# Altium schematic symbol library CPU_STM.SchLib: 336 symbols (part 1 of 6)
Pins are listed as number, name and electrical type; pins without a type are passive.

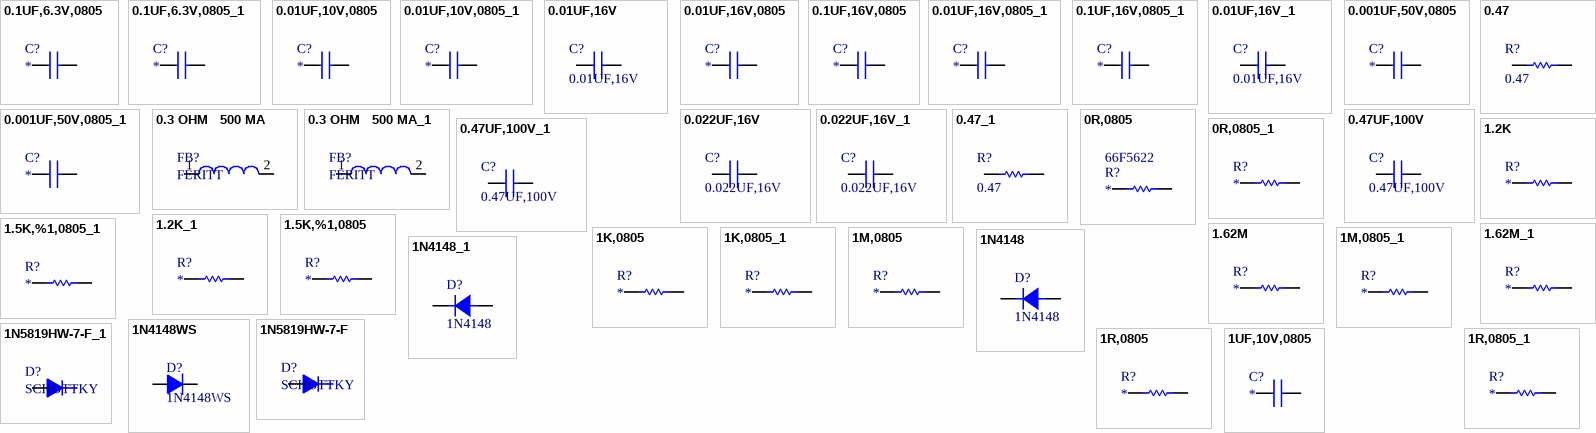
[diagram p0: symbols 0.1UF,6.3V,0805 to 1UF,10V,0805]

## 0.1UF,6.3V,0805
designator C?
CAP CER 0.1UF 6.3V 10% X7R 0805; Manufacturer: Kemet; Manufacturer Part Number: C0805C104K9RACTU; Capacitance: 0.1µF; Supplier 1: Digi-Key; RoHS: RoHS Compliant; Category: Capacitors; Stock 1: 19204; Pricing 1: 1=0.12, 10=0.083, 25=0.062, 50=0.0476, 100=0.0392, 250=0.03304, 1000=0.02228 (USD); Packaging: Digi-Reel®; Tolerance: ±10%; Voltage - Rated: 6.3V; Temperature Coefficient: X7R; Mounting Type: Surface Mount, MLCC; Operating Temperature: -55°C ~ 125°C; Applications: General Purpose; Ratings: -; Package / Case: 0805 (2012 Metric); Size / Dimension: 0.079" L x 0.049" W (2.00mm x 1.25mm); Height - Seated (Max): -; Thickness (Max): 0.035" (0.88mm); Lead Spacing: -; Features: -; Lead Style: -; ComponentLink1URL: http://www.kemet.com/docfinder?Partnumber=C0805C104K9RACTU; ComponentLink1Description: http://www.kemet.com/docfinder?Partnumber=C0805C104K9RACTU; Supplier Part Number 1: 399-9155-6-ND
footprint C0805
pins: 1, 2

## 0.1UF,6.3V,0805_1
designator C?
CAP CER 0.1UF 6.3V 10% X7R 0805; Manufacturer: Kemet; Manufacturer Part Number: C0805C104K9RACTU; Capacitance: 0.1µF; Supplier 1: Digi-Key; RoHS: RoHS Compliant; Category: Capacitors; Stock 1: 19204; Pricing 1: 1=0.12, 10=0.083, 25=0.062, 50=0.0476, 100=0.0392, 250=0.03304, 1000=0.02228 (USD); Packaging: Digi-Reel®; Tolerance: ±10%; Voltage - Rated: 6.3V; Temperature Coefficient: X7R; Mounting Type: Surface Mount, MLCC; Operating Temperature: -55°C ~ 125°C; Applications: General Purpose; Ratings: -; Package / Case: 0805 (2012 Metric); Size / Dimension: 0.079" L x 0.049" W (2.00mm x 1.25mm); Height - Seated (Max): -; Thickness (Max): 0.035" (0.88mm); Lead Spacing: -; Features: -; Lead Style: -; ComponentLink1URL: http://www.kemet.com/docfinder?Partnumber=C0805C104K9RACTU; ComponentLink1Description: http://www.kemet.com/docfinder?Partnumber=C0805C104K9RACTU; Supplier Part Number 1: 399-9155-6-ND
footprint C0805
pins: 1, 2

## 0.01UF,10V,0805
designator C?
MULTICOMP - MCSH21B103K100CT - CAP, MLCC, X7R, 10NF, 10V, 0805; Supplier 1: Farnell; Manufacturer: MULTICOMP; Manufacturer Part Number: MCSH21B103K100CT; RoHS: YES; Stock 1: 9100; Pricing 1: 100=0,02, 500=0,0106, 1000=0,008, 3000=0,0067 (EUR); ComponentLink1URL: http://www.farnell.com/datasheets/1825494.pdf; ComponentLink1Description: http://www.farnell.com/datasheets/1825494.pdf; Supplier Part Number 1: 1856414RL
footprint C0805
pins: 1, 2

## 0.01UF,10V,0805_1
designator C?
MULTICOMP - MCSH21B103K100CT - CAP, MLCC, X7R, 10NF, 10V, 0805; Supplier 1: Farnell; Manufacturer: MULTICOMP; Manufacturer Part Number: MCSH21B103K100CT; RoHS: YES; Stock 1: 9100; Pricing 1: 100=0,02, 500=0,0106, 1000=0,008, 3000=0,0067 (EUR); ComponentLink1URL: http://www.farnell.com/datasheets/1825494.pdf; ComponentLink1Description: http://www.farnell.com/datasheets/1825494.pdf; Supplier Part Number 1: 1856414RL
footprint C0805
pins: 1, 2

## 0.01UF,16V
designator C?
Multilayer Ceramic Capacitors MLCC - SMD/SMT 0603 0.01uF 16volts X7R 10%; Manufacturer: Murata Electronics; Manufacturer Part Number: GRM188R71C103KA01D; Type: General Purpose MLCC; Case Height: 0.8 mm; Case Length: 1.6 mm; Temperature Coefficient / Code: +/- 15 %; Supplier 1: Mouser; RoHS: RoHS Compliant; Category: Multilayer Ceramic Capacitors MLCC - SMD/SMT; Stock 1: 146928; Pricing 1: 1=0.163, 10=0.040, 100=0.024, 1000=0.018, 4000=0.015, 8000=0.013, 24000=0.012, 48000=0.009 (AUD); Capacitance: 0.01 uF; Operating Temperature Range: - 55 C to + 125 C; Package / Case: 0603 (1608 metric); Packaging: Reel; Product: General Type MLCCs; Series: GRM; Termination Style: SMD/SMT; Tolerance: 10 %; Voltage Rating DC: 16 V; Brand: Murata Electronics; Case Code - in: 0603; Case Code - mm: 1608; Case Width: 0.8 mm; Dielectric: X7R; Maximum Operating Temperature: + 125 C; Minimum Operating Temperature: - 55 C; Product Category: Low & Medium Capacitance SMD Ceramic Chip Capacitors; Standard Pack Qty: 4000; RoHS - Mouser: Y; Minimum Order Quantity: 1; Reeling: True; ComponentLink1URL: http://www.mouser.com/ds/2/281/c02e-2905.pdf; ComponentLink1Description: http://www.mouser.com/ds/2/281/c02e-2905.pdf; Supplier Part Number 1: 81-GRM18R71C103KA01D
footprint 0603 (0603_CC)
pins: 1, 2

## 0.01UF,16V,0805
designator C?
AVX - 0805YA103JAT2A - CAP, MLCC, C0G/NP0, 10NF, 16V, 0805; Supplier 1: Farnell; Manufacturer: AVX; Manufacturer Part Number: 0805YA103JAT2A; RoHS: YES; Stock 1: 868; Pricing 1: 10=0,159, 100=0,126, 500=0,1, 1000=0,0754, 4000=0,0533 (EUR); ComponentLink1URL: http://www.avx.com/docs/Catalogs/ccog.pdf; ComponentLink1Description: http://www.avx.com/docs/Catalogs/ccog.pdf; Supplier Part Number 1: 2332815; Supplier 2: Farnell; Stock 2: 9100; Pricing 2: 100=0,02, 500=0,0106, 1000=0,008, 3000=0,0067 (EUR); ComponentLink2URL: http://www.farnell.com/datasheets/1825494.pdf; ComponentLink2Description: http://www.farnell.com/datasheets/1825494.pdf
footprint C0805
pins: 1, 2

## 0.1UF,16V,0805
designator C?
AVX - 0805YC104KAT2A - CAP, MLCC, X7R, 100NF, 16V, 0805; Capacitance: 0.1; Capacitance Tolerance: ± 10%; Dielectric Characteristic: X7; Voltage Rating: 16; Ceramic Capacitor Case: 0805 [2012 Metric]; SVHC: No SVHC (16-Jun-2014); Capacitor Case Style: 0805 [2012 Metric]<!--FANDB--><div class="features-and-benefits-container"></div>; Supplier 1: Farnell; Manufacturer: AVX; Manufacturer Part Number: 0805YC104KAT2A; RoHS: YES; Stock 1: 4160; Pricing 1: 10=0,12, 100=0,0962, 500=0,0754, 1000=0,0559, 4000=0,039 (EUR); Product Range: -; Operating Temperature Min: -55; Operating Temperature Max: 125; Packaging: Cut Tape; MSL: MSL 1 - Unlimited; Capacitance Tolerance ±: ± 10%; ComponentLink1URL: http://www.farnell.com/datasheets/1679506.pdf; ComponentLink1Description: http://www.farnell.com/datasheets/1679506.pdf; Supplier Part Number 1: 2332817
footprint C0805
pins: 1, 2

## 0.01UF,16V,0805_1
designator C?
AVX - 0805YA103JAT2A - CAP, MLCC, C0G/NP0, 10NF, 16V, 0805; Supplier 1: Farnell; Manufacturer: AVX; Manufacturer Part Number: 0805YA103JAT2A; RoHS: YES; Stock 1: 868; Pricing 1: 10=0,159, 100=0,126, 500=0,1, 1000=0,0754, 4000=0,0533 (EUR); ComponentLink1URL: http://www.avx.com/docs/Catalogs/ccog.pdf; ComponentLink1Description: http://www.avx.com/docs/Catalogs/ccog.pdf; Supplier Part Number 1: 2332815; Supplier 2: Farnell; Stock 2: 9100; Pricing 2: 100=0,02, 500=0,0106, 1000=0,008, 3000=0,0067 (EUR); ComponentLink2URL: http://www.farnell.com/datasheets/1825494.pdf; ComponentLink2Description: http://www.farnell.com/datasheets/1825494.pdf
footprint C0805
pins: 1, 2

## 0.1UF,16V,0805_1
designator C?
AVX - 0805YC104KAT2A - CAP, MLCC, X7R, 100NF, 16V, 0805; Capacitance: 0.1; Capacitance Tolerance: ± 10%; Dielectric Characteristic: X7; Voltage Rating: 16; Ceramic Capacitor Case: 0805 [2012 Metric]; SVHC: No SVHC (16-Jun-2014); Capacitor Case Style: 0805 [2012 Metric]<!--FANDB--><div class="features-and-benefits-container"></div>; Supplier 1: Farnell; Manufacturer: AVX; Manufacturer Part Number: 0805YC104KAT2A; RoHS: YES; Stock 1: 4160; Pricing 1: 10=0,12, 100=0,0962, 500=0,0754, 1000=0,0559, 4000=0,039 (EUR); Product Range: -; Operating Temperature Min: -55; Operating Temperature Max: 125; Packaging: Cut Tape; MSL: MSL 1 - Unlimited; Capacitance Tolerance ±: ± 10%; ComponentLink1URL: http://www.farnell.com/datasheets/1679506.pdf; ComponentLink1Description: http://www.farnell.com/datasheets/1679506.pdf; Supplier Part Number 1: 2332817
footprint C0805
pins: 1, 2

## 0.01UF,16V_1
designator C?, comment 0.01UF,16V
Multilayer Ceramic Capacitors MLCC - SMD/SMT 0603 0.01uF 16volts X7R 10%; Manufacturer: Murata Electronics; Manufacturer Part Number: GRM188R71C103KA01D; Type: General Purpose MLCC; Case Height: 0.8 mm; Case Length: 1.6 mm; Temperature Coefficient / Code: +/- 15 %; Supplier 1: Mouser; RoHS: RoHS Compliant; Category: Multilayer Ceramic Capacitors MLCC - SMD/SMT; Stock 1: 146928; Pricing 1: 1=0.163, 10=0.040, 100=0.024, 1000=0.018, 4000=0.015, 8000=0.013, 24000=0.012, 48000=0.009 (AUD); Capacitance: 0.01 uF; Operating Temperature Range: - 55 C to + 125 C; Package / Case: 0603 (1608 metric); Packaging: Reel; Product: General Type MLCCs; Series: GRM; Termination Style: SMD/SMT; Tolerance: 10 %; Voltage Rating DC: 16 V; Brand: Murata Electronics; Case Code - in: 0603; Case Code - mm: 1608; Case Width: 0.8 mm; Dielectric: X7R; Maximum Operating Temperature: + 125 C; Minimum Operating Temperature: - 55 C; Product Category: Low & Medium Capacitance SMD Ceramic Chip Capacitors; Standard Pack Qty: 4000; RoHS - Mouser: Y; Minimum Order Quantity: 1; Reeling: True; ComponentLink1URL: http://www.mouser.com/ds/2/281/c02e-2905.pdf; ComponentLink1Description: http://www.mouser.com/ds/2/281/c02e-2905.pdf; Supplier Part Number 1: 81-GRM18R71C103KA01D
footprint 0603 (0603_CC)
pins: 1, 2

## 0.001UF,50V,0805
designator C?
AVX - 08055A102GAT2A - CAPACITOR CERAMIC 1000PF 50V, C0G, 2%, 0805; Supplier 1: Farnell; Manufacturer: AVX; Manufacturer Part Number: 08055A102GAT2A; RoHS: YES; Stock 1: 2370; Pricing 1: 1=0,185, 10=0,176, 100=0,086, 250=0,081, 500=0,078, 1000=0,077 (EUR); ComponentLink1URL: http://www.farnell.com/datasheets/84496.pdf; ComponentLink1Description: http://www.farnell.com/datasheets/84496.pdf; Supplier Part Number 1: 1663660
footprint C0805
pins: 1, 2

## 0.001UF,50V,0805_1
designator C?
AVX - 08055A102GAT2A - CAPACITOR CERAMIC 1000PF 50V, C0G, 2%, 0805; Supplier 1: Farnell; Manufacturer: AVX; Manufacturer Part Number: 08055A102GAT2A; RoHS: YES; Stock 1: 2370; Pricing 1: 1=0,185, 10=0,176, 100=0,086, 250=0,081, 500=0,078, 1000=0,077 (EUR); ComponentLink1URL: http://www.farnell.com/datasheets/84496.pdf; ComponentLink1Description: http://www.farnell.com/datasheets/84496.pdf; Supplier Part Number 1: 1663660
footprint C0805
pins: 1, 2

## 0.3 OHM   500 MA
designator FB?, comment FERITT
footprint 0805
pins: 1, 2

## 0.3 OHM   500 MA_1
designator FB?, comment FERITT
footprint 0805
pins: 1, 2

## 0.022UF,16V
designator C?
Multilayer Ceramic Capacitors MLCC - SMD/SMT 0603 0.022uF 16volts X7R 10%; Manufacturer: Murata Electronics; Manufacturer Part Number: GRM188R71C223KA01D; Type: General Purpose MLCC; Case Height: 0.8 mm; Case Length: 1.6 mm; Temperature Coefficient / Code: +/- 15 %; Supplier 1: Mouser; RoHS: RoHS Compliant; Category: Multilayer Ceramic Capacitors MLCC - SMD/SMT; Stock 1: 58137; Pricing 1: 1=0.149, 10=0.039, 100=0.022, 1000=0.018, 4000=0.013, 8000=0.012, 48000=0.009 (AUD); Capacitance: 0.022 uF; Operating Temperature Range: - 55 C to + 125 C; Package / Case: 0603 (1608 metric); Packaging: Reel; Product: General Type MLCCs; Series: GRM; Termination Style: SMD/SMT; Tolerance: 10 %; Voltage Rating DC: 16 V; Brand: Murata Electronics; Case Code - in: 0603; Case Code - mm: 1608; Case Width: 0.8 mm; Dielectric: X7R; Maximum Operating Temperature: + 125 C; Minimum Operating Temperature: - 55 C; Product Category: Low & Medium Capacitance SMD Ceramic Chip Capacitors; Standard Pack Qty: 4000; RoHS - Mouser: Y; Minimum Order Quantity: 1; Reeling: True; ComponentLink1URL: http://www.mouser.com/ds/2/281/c02e-2905.pdf; ComponentLink1Description: http://www.mouser.com/ds/2/281/c02e-2905.pdf; Supplier Part Number 1: 81-GRM39X223K16D
footprint Model Name (Footprint not found)
footprint 0603 (0603_CC)
pins: 1, 2

## 0.022UF,16V_1
designator C?, comment 0.022UF,16V
Multilayer Ceramic Capacitors MLCC - SMD/SMT 0603 0.022uF 16volts X7R 10%; Manufacturer: Murata Electronics; Manufacturer Part Number: GRM188R71C223KA01D; Type: General Purpose MLCC; Case Height: 0.8 mm; Case Length: 1.6 mm; Temperature Coefficient / Code: +/- 15 %; Supplier 1: Mouser; RoHS: RoHS Compliant; Category: Multilayer Ceramic Capacitors MLCC - SMD/SMT; Stock 1: 58137; Pricing 1: 1=0.149, 10=0.039, 100=0.022, 1000=0.018, 4000=0.013, 8000=0.012, 48000=0.009 (AUD); Capacitance: 0.022 uF; Operating Temperature Range: - 55 C to + 125 C; Package / Case: 0603 (1608 metric); Packaging: Reel; Product: General Type MLCCs; Series: GRM; Termination Style: SMD/SMT; Tolerance: 10 %; Voltage Rating DC: 16 V; Brand: Murata Electronics; Case Code - in: 0603; Case Code - mm: 1608; Case Width: 0.8 mm; Dielectric: X7R; Maximum Operating Temperature: + 125 C; Minimum Operating Temperature: - 55 C; Product Category: Low & Medium Capacitance SMD Ceramic Chip Capacitors; Standard Pack Qty: 4000; RoHS - Mouser: Y; Minimum Order Quantity: 1; Reeling: True; ComponentLink1URL: http://www.mouser.com/ds/2/281/c02e-2905.pdf; ComponentLink1Description: http://www.mouser.com/ds/2/281/c02e-2905.pdf; Supplier Part Number 1: 81-GRM39X223K16D
footprint Model Name (Footprint not found)
footprint 0603 (0603_CC)
pins: 1, 2

## 0.47
designator R?
Thick Film Resistors - SMD 0805 0.47ohms 1% Tol; Manufacturer: Panasonic; Manufacturer Part Number: ERJ-6RQFR47V; Power Rating: 125 mW (1/8 W); Temperature Coefficient: 200 PPM / C; Case Height: 0.6 mm; Case Length: 2 mm; Case Width: 1.2 mm; Supplier 1: Mouser; RoHS: RoHS Compliant By Exemption; Category: Thick Film Resistors - SMD; Stock 1: 25969; Pricing 1: 1=0.846, 10=0.337, 100=0.143, 1000=0.104, 5000=0.058, 10000=0.055, 25000=0.052, 50000=0.050 (AUD); Operating Temperature Range: - 55 C to + 125 C; Package / Case: 0805 (2012 metric); Packaging: Reel; Product: Thick Film Resistors SMD; Resistance: 0.47 Ohms; Series: ERJ; Tolerance: 1 %; Type: Thick Film Resistors, Low Resistance Type; Brand: Panasonic; Case Code - in: 0805; Case Code - mm: 2012; Product Category: Thick Film Current Sensing Resistors; Standard Pack Qty: 5000; RoHS - Mouser: E; Minimum Order Quantity: 1; Reeling: True; ComponentLink1URL: http://www.mouser.com/ds/2/315/AOA0000CE3-72189.pdf; ComponentLink1Description: http://www.mouser.com/ds/2/315/AOA0000CE3-72189.pdf; Supplier Part Number 1: 667-ERJ-6RQFR47V
footprint R0805
pins: 1, 2

## 0.47_1
designator R?, comment 0.47
Thick Film Resistors - SMD 0805 0.47ohms 1% Tol; Manufacturer: Panasonic; Manufacturer Part Number: ERJ-6RQFR47V; Power Rating: 125 mW (1/8 W); Temperature Coefficient: 200 PPM / C; Case Height: 0.6 mm; Case Length: 2 mm; Case Width: 1.2 mm; Supplier 1: Mouser; RoHS: RoHS Compliant By Exemption; Category: Thick Film Resistors - SMD; Stock 1: 25969; Pricing 1: 1=0.846, 10=0.337, 100=0.143, 1000=0.104, 5000=0.058, 10000=0.055, 25000=0.052, 50000=0.050 (AUD); Operating Temperature Range: - 55 C to + 125 C; Package / Case: 0805 (2012 metric); Packaging: Reel; Product: Thick Film Resistors SMD; Resistance: 0.47 Ohms; Series: ERJ; Tolerance: 1 %; Type: Thick Film Resistors, Low Resistance Type; Brand: Panasonic; Case Code - in: 0805; Case Code - mm: 2012; Product Category: Thick Film Current Sensing Resistors; Standard Pack Qty: 5000; RoHS - Mouser: E; Minimum Order Quantity: 1; Reeling: True; ComponentLink1URL: http://www.mouser.com/ds/2/315/AOA0000CE3-72189.pdf; ComponentLink1Description: http://www.mouser.com/ds/2/315/AOA0000CE3-72189.pdf; Supplier Part Number 1: 667-ERJ-6RQFR47V
footprint R0805
pins: 1, 2

## 0.47UF,100V
designator C?
Multilayer Ceramic Capacitors MLCC - SMD/SMT 0805 0.47uF 100volts X7R 10%; Manufacturer: Murata Electronics; Manufacturer Part Number: GRM21BR72A474KA73L; Type: General Purpose MLCC; Case Height: 1.25 mm; Case Length: 2 mm; Temperature Coefficient / Code: +/- 15 %; Supplier 1: Mouser; RoHS: RoHS Compliant; Category: Multilayer Ceramic Capacitors MLCC - SMD/SMT; Stock 1: 192334; Pricing 1: 1=0.876, 10=0.500, 100=0.307, 1000=0.276, 3000=0.184, 9000=0.169, 24000=0.166, 45000=0.160, 99000=0.154 (AUD); Capacitance: 0.47 uF; Operating Temperature Range: - 55 C to + 125 C; Package / Case: 0805 (2012 metric); Packaging: Reel; Product: General Type MLCCs; Series: GRM; Termination Style: SMD/SMT; Tolerance: 10 %; Voltage Rating DC: 100 V; Brand: Murata Electronics; Case Code - in: 0805; Case Code - mm: 2012; Case Width: 1.25 mm; Dielectric: X7R; Maximum Operating Temperature: + 125 C; Minimum Operating Temperature: - 55 C; Product Category: Low & Medium Capacitance SMD Ceramic Chip Capacitors; Standard Pack Qty: 3000; RoHS - Mouser: Y; Minimum Order Quantity: 1; Reeling: True; ComponentLink1URL: http://www.mouser.com/ds/2/281/c02e-2905.pdf; ComponentLink1Description: http://www.mouser.com/ds/2/281/c02e-2905.pdf; Supplier Part Number 1: 81-GRM21BR72A474KA73
footprint 0805
pins: 1, 2

## 0.47UF,100V_1
designator C?, comment 0.47UF,100V
Multilayer Ceramic Capacitors MLCC - SMD/SMT 0805 0.47uF 100volts X7R 10%; Manufacturer: Murata Electronics; Manufacturer Part Number: GRM21BR72A474KA73L; Type: General Purpose MLCC; Case Height: 1.25 mm; Case Length: 2 mm; Temperature Coefficient / Code: +/- 15 %; Supplier 1: Mouser; RoHS: RoHS Compliant; Category: Multilayer Ceramic Capacitors MLCC - SMD/SMT; Stock 1: 192334; Pricing 1: 1=0.876, 10=0.500, 100=0.307, 1000=0.276, 3000=0.184, 9000=0.169, 24000=0.166, 45000=0.160, 99000=0.154 (AUD); Capacitance: 0.47 uF; Operating Temperature Range: - 55 C to + 125 C; Package / Case: 0805 (2012 metric); Packaging: Reel; Product: General Type MLCCs; Series: GRM; Termination Style: SMD/SMT; Tolerance: 10 %; Voltage Rating DC: 100 V; Brand: Murata Electronics; Case Code - in: 0805; Case Code - mm: 2012; Case Width: 1.25 mm; Dielectric: X7R; Maximum Operating Temperature: + 125 C; Minimum Operating Temperature: - 55 C; Product Category: Low & Medium Capacitance SMD Ceramic Chip Capacitors; Standard Pack Qty: 3000; RoHS - Mouser: Y; Minimum Order Quantity: 1; Reeling: True; ComponentLink1URL: http://www.mouser.com/ds/2/281/c02e-2905.pdf; ComponentLink1Description: http://www.mouser.com/ds/2/281/c02e-2905.pdf; Supplier Part Number 1: 81-GRM21BR72A474KA73
footprint 0805
pins: 1, 2

## 0R,0805
designator R?  Supplier Part Number 3: 66F5622
BOURNS - CR0805-J/-000ELF - RESISTOR, 0805, 0R, 5%, 1/8W; Product Range: BOURNS - CR Series; Resistance: 0; Power Rating: 125; Resistor Case Style: 0805 [2012 Metric]; Resistor Element Material: Thick Film; Temperature Coefficient: -250ppm/°C to +500; Voltage Rating: 150; SVHC: No SVHC (16-Jun-2014); Resistor Mounting: SMD<!--FANDB--><div class="features-and-benefits-container"></div>; Supplier 1: Farnell; Manufacturer: BOURNS; Manufacturer Part Number: CR0805-J/-000ELF; RoHS: YES; Stock 1: 20931; Pricing 1: 50=0,0234, 250=0,0208, 1000=0,0182, 5000=0,0143, 10000=0,0104 (EUR); Resistance Tolerance: ± 5%; Packaging: Cut Tape; MSL: MSL 1 - Unlimited; ComponentLink1URL: http://www.farnell.com/datasheets/1845293.pdf; ComponentLink1Description: http://www.farnell.com/datasheets/1845293.pdf; Supplier Part Number 1: 2008388RL; Supplier 2: Farnell; Supplier 3: Newark
footprint R0805
pins: 1, 2

## 0R,0805_1
designator R?
BOURNS - CR0805-J/-000ELF - RESISTOR, 0805, 0R, 5%, 1/8W; Product Range: BOURNS - CR Series; Resistance: 0; Power Rating: 125; Resistor Case Style: 0805 [2012 Metric]; Resistor Element Material: Thick Film; Temperature Coefficient: -250ppm/°C to +500; Voltage Rating: 150; SVHC: No SVHC (16-Jun-2014); Resistor Mounting: SMD<!--FANDB--><div class="features-and-benefits-container"></div>; Supplier 1: Farnell; Manufacturer: BOURNS; Manufacturer Part Number: CR0805-J/-000ELF; RoHS: YES; Stock 1: 20931; Pricing 1: 50=0,0234, 250=0,0208, 1000=0,0182, 5000=0,0143, 10000=0,0104 (EUR); Resistance Tolerance: ± 5%; Packaging: Cut Tape; MSL: MSL 1 - Unlimited; ComponentLink1URL: http://www.farnell.com/datasheets/1845293.pdf; ComponentLink1Description: http://www.farnell.com/datasheets/1845293.pdf; Supplier Part Number 1: 2008388RL; Supplier 2: Farnell
footprint R0805
pins: 1, 2

## 1.2K
designator R?
MULTICOMP - MCPWR05FTEW1201 - RESISTOR, 0805, 1.2K 1%,  0.125W; Supplier 1: Farnell; Manufacturer: MULTICOMP; Manufacturer Part Number: MCPWR05FTEW1201; RoHS: Y-EX; Stock 1: 1606; Pricing 1: 25=0,0572, 100=0,0426, 500=0,0359, 1000=0,0266, 5000=0,0146 (EUR); ComponentLink1URL: http://www.farnell.com/datasheets/1718729.pdf; ComponentLink1Description: http://www.farnell.com/datasheets/1718729.pdf; ComponentLink2URL: http://www.farnell.com/cad/1559081.zip; ComponentLink2Description: http://www.farnell.com/cad/1559081.zip; Supplier Part Number 1: 1887283
footprint R0805
pins: 1, 2

## 1.2K_1
designator R?
MULTICOMP - MCPWR05FTEW1201 - RESISTOR, 0805, 1.2K 1%,  0.125W; Supplier 1: Farnell; Manufacturer: MULTICOMP; Manufacturer Part Number: MCPWR05FTEW1201; RoHS: Y-EX; Stock 1: 1606; Pricing 1: 25=0,0572, 100=0,0426, 500=0,0359, 1000=0,0266, 5000=0,0146 (EUR); ComponentLink1URL: http://www.farnell.com/datasheets/1718729.pdf; ComponentLink1Description: http://www.farnell.com/datasheets/1718729.pdf; ComponentLink2URL: http://www.farnell.com/cad/1559081.zip; ComponentLink2Description: http://www.farnell.com/cad/1559081.zip; Supplier Part Number 1: 1887283
footprint R0805
pins: 1, 2

## 1.5K,%1,0805
designator R?
MULTICOMP - MCPWR05FTEW1501 - RESISTOR, 0805, 1.5K 1%,  0.125W; Product Range: MULTICOMP - MCPWR Series; Resistance: 1.5; Power Rating: 125; Resistor Case Style: 0805 [2012 Metric]; Resistor Element Material: Thick Film; Temperature Coefficient: ± 100; Voltage Rating: 150; SVHC: No SVHC (16-Jun-2014); Resistor Mounting: SMD<!--FANDB--><div class="features-and-benefits-container"></div>; Supplier 1: Farnell; Manufacturer: MULTICOMP; Manufacturer Part Number: MCPWR05FTEW1501; RoHS: Y-EX; Stock 1: 2400; Pricing 1: 25=0,0572, 100=0,0439, 500=0,0359, 1000=0,0266, 5000=0,016 (EUR); Resistance Tolerance: ± 1%; Packaging: Cut Tape; MSL: -; ComponentLink1URL: http://www.farnell.com/datasheets/1718729.pdf; ComponentLink1Description: http://www.farnell.com/datasheets/1718729.pdf; ComponentLink2URL: http://www.farnell.com/cad/1638340.zip; ComponentLink2Description: http://www.farnell.com/cad/1638340.zip; Supplier Part Number 1: 1887285
footprint R0805
pins: 1, 2

## 1.5K,%1,0805_1
designator R?
MULTICOMP - MCPWR05FTEW1501 - RESISTOR, 0805, 1.5K 1%,  0.125W; Product Range: MULTICOMP - MCPWR Series; Resistance: 1.5; Power Rating: 125; Resistor Case Style: 0805 [2012 Metric]; Resistor Element Material: Thick Film; Temperature Coefficient: ± 100; Voltage Rating: 150; SVHC: No SVHC (16-Jun-2014); Resistor Mounting: SMD<!--FANDB--><div class="features-and-benefits-container"></div>; Supplier 1: Farnell; Manufacturer: MULTICOMP; Manufacturer Part Number: MCPWR05FTEW1501; RoHS: Y-EX; Stock 1: 2400; Pricing 1: 25=0,0572, 100=0,0439, 500=0,0359, 1000=0,0266, 5000=0,016 (EUR); Resistance Tolerance: ± 1%; Packaging: Cut Tape; MSL: -; ComponentLink1URL: http://www.farnell.com/datasheets/1718729.pdf; ComponentLink1Description: http://www.farnell.com/datasheets/1718729.pdf; ComponentLink2URL: http://www.farnell.com/cad/1638340.zip; ComponentLink2Description: http://www.farnell.com/cad/1638340.zip; Supplier Part Number 1: 1887285
footprint R0805
pins: 1, 2

## 1.62M
designator R?
RES 1.62M OHM 1/8W 1% 0805 SMD; Manufacturer: Yageo; Manufacturer Part Number: RC0805FR-071M62L; Power (Watts): 0.125W, 1/8W; Temperature Coefficient: ±100ppm/°C; Supplier 1: Digi-Key; RoHS: RoHS Compliant; Category: Resistors; Stock 1: 15000; Pricing 1: 5000=0.00289, 10000=0.00251, 25000=0.0022, 50000=0.00202, 125000=0.00198 (USD); Packaging: Tape & Reel (TR); Resistance (Ohms): 1.62M; Tolerance: ±1%; Composition: Thick Film; Features: Moisture Resistant; Package / Case: 0805 (2012 Metric); Supplier Device Package: 0805; Size / Dimension: 0.079" L x 0.049" W (2.00mm x 1.25mm); Height: 0.024" (0.60mm); Number of Terminations: 2; ComponentLink1URL: http://media.digikey.com/pdf/Data%20Sheets/Yageo%20PDFs/RC0805%20Pb%20Free.pdf; ComponentLink1Description: http://media.digikey.com/pdf/Data%20Sheets/Yageo%20PDFs/RC0805%20Pb%20Free.pdf; Supplier Part Number 1: 311-1.62MCRTR-ND
footprint R0805
pins: 1, 2

## 1.62M_1
designator R?
RES 1.62M OHM 1/8W 1% 0805 SMD; Manufacturer: Yageo; Manufacturer Part Number: RC0805FR-071M62L; Power (Watts): 0.125W, 1/8W; Temperature Coefficient: ±100ppm/°C; Supplier 1: Digi-Key; RoHS: RoHS Compliant; Category: Resistors; Stock 1: 15000; Pricing 1: 5000=0.00289, 10000=0.00251, 25000=0.0022, 50000=0.00202, 125000=0.00198 (USD); Packaging: Tape & Reel (TR); Resistance (Ohms): 1.62M; Tolerance: ±1%; Composition: Thick Film; Features: Moisture Resistant; Package / Case: 0805 (2012 Metric); Supplier Device Package: 0805; Size / Dimension: 0.079" L x 0.049" W (2.00mm x 1.25mm); Height: 0.024" (0.60mm); Number of Terminations: 2; ComponentLink1URL: http://media.digikey.com/pdf/Data%20Sheets/Yageo%20PDFs/RC0805%20Pb%20Free.pdf; ComponentLink1Description: http://media.digikey.com/pdf/Data%20Sheets/Yageo%20PDFs/RC0805%20Pb%20Free.pdf; Supplier Part Number 1: 311-1.62MCRTR-ND
footprint R0805
pins: 1, 2

## 1K,0805
designator R?
BOURNS - CR0805-FX-1001ELF - RESISTOR, 1K, 0.125W, 1%; Product Range: BOURNS - CR Series; Resistance: 1; Power Rating: 125; Resistor Case Style: 0805 [2012 Metric]; Resistor Element Material: Thick Film; Temperature Coefficient: ± 100; Voltage Rating: 150; SVHC: No SVHC (16-Jun-2014); Resistor Mounting: SMD<!--FANDB--><div class="features-and-benefits-container"></div>; Supplier 1: Farnell; Manufacturer: BOURNS; Manufacturer Part Number: CR0805-FX-1001ELF; RoHS: YES; Stock 1: 70235; Pricing 1: 50=0,0286, 250=0,0247, 1000=0,0234, 5000=0,0221, 10000=0,0208 (EUR); Resistance Tolerance: ± 1%; Packaging: Cut Tape; MSL: MSL 1 - Unlimited; ComponentLink1URL: http://www.farnell.com/datasheets/1845293.pdf; ComponentLink1Description: http://www.farnell.com/datasheets/1845293.pdf; Supplier Part Number 1: 2008380
footprint R0805
pins: 1, 2

## 1K,0805_1
designator R?
BOURNS - CR0805-FX-1001ELF - RESISTOR, 1K, 0.125W, 1%; Product Range: BOURNS - CR Series; Resistance: 1; Power Rating: 125; Resistor Case Style: 0805 [2012 Metric]; Resistor Element Material: Thick Film; Temperature Coefficient: ± 100; Voltage Rating: 150; SVHC: No SVHC (16-Jun-2014); Resistor Mounting: SMD<!--FANDB--><div class="features-and-benefits-container"></div>; Supplier 1: Farnell; Manufacturer: BOURNS; Manufacturer Part Number: CR0805-FX-1001ELF; RoHS: YES; Stock 1: 70235; Pricing 1: 50=0,0286, 250=0,0247, 1000=0,0234, 5000=0,0221, 10000=0,0208 (EUR); Resistance Tolerance: ± 1%; Packaging: Cut Tape; MSL: MSL 1 - Unlimited; ComponentLink1URL: http://www.farnell.com/datasheets/1845293.pdf; ComponentLink1Description: http://www.farnell.com/datasheets/1845293.pdf; Supplier Part Number 1: 2008380
footprint R0805
pins: 1, 2

## 1M,0805
designator R?
MULTICOMP - MC0805S8F1004T5E - RESISTOR, THICK FILM, 1MOHM, 125mW, 1%; Product Range: MULTICOMP - MC Series; Resistance: 1; Power Rating: 125; Resistor Case Style: 0805 ^2012 Metric]; Supplier 1: Farnell; Manufacturer: MULTICOMP; Manufacturer Part Number: MC0805S8F1004T5E; RoHS: Y-EX; Stock 1: 4376; Pricing 1: 1=0,003, 100=0,001, 1000=0,001, 5000=0,001, 10000=0,001, 25000=0,001 (EUR); Resistance Tolerance: ± 1%; Resistor Element Type: Thick Film; MSL: -; ComponentLink1URL: http://www.newark.com/pdfs/datasheets/spc/TA-677.pdf; ComponentLink1Description: http://www.newark.com/pdfs/datasheets/spc/TA-677.pdf; Supplier Part Number 1: 1646371
footprint R0805
pins: 1, 2

## 1M,0805_1
designator R?
MULTICOMP - MC0805S8F1004T5E - RESISTOR, THICK FILM, 1MOHM, 125mW, 1%; Product Range: MULTICOMP - MC Series; Resistance: 1; Power Rating: 125; Resistor Case Style: 0805 ^2012 Metric]; Supplier 1: Farnell; Manufacturer: MULTICOMP; Manufacturer Part Number: MC0805S8F1004T5E; RoHS: Y-EX; Stock 1: 4376; Pricing 1: 1=0,003, 100=0,001, 1000=0,001, 5000=0,001, 10000=0,001, 25000=0,001 (EUR); Resistance Tolerance: ± 1%; Resistor Element Type: Thick Film; MSL: -; ComponentLink1URL: http://www.newark.com/pdfs/datasheets/spc/TA-677.pdf; ComponentLink1Description: http://www.newark.com/pdfs/datasheets/spc/TA-677.pdf; Supplier Part Number 1: 1646371
footprint R0805
pins: 1, 2

## 1N4148
designator D?, comment value 1N4148  (hidden comment: 1N4148_RAD)
Small signal diode; Supplier 1: Farnell; Supplier Part Number 1: 9843680
footprint HEADER,2PİN
pins: 1 C, 2 A

## 1N4148_1
designator D?, comment value 1N4148  (hidden comment: 1N4148_RAD)
Small signal diode; Supplier 1: Farnell; Supplier Part Number 1: 9843680
footprint HEADER,2PİN
pins: 1 C, 2 A

## 1N4148WS
designator D?
DIODES INC. - 1N4148WS-7-F - DIODE, SS SWITCH, 75V, 0.2W, SOD323; Diode Configuration: Single; Repetitive Reverse Voltage Vrrm Max: 75; Forward Current If(AV): 150; Forward Voltage VF Max: 1.25; Reverse Recovery Time trr Max: 4; Forward Surge Current Ifsm Max: 2; Diode Case Style: SOD-323; Product Range: 1N4148 Series; SVHC: No SVHC (17-Dec-2015); Diode Type: Switching; Supplier 1: Farnell; Manufacturer: DIODES INC.; Manufacturer Part Number: 1N4148WS-7-F; RoHS: YES; Stock 1: 52116; Pricing 1: 1=0.186, 25=0.142, 100=0.0928, 250=0.0514, 500=0.0433, 1000=0.0256, 3000=0.025, 8000=0.0239 (GBP); Operating Temperature Max: 150; No. of Pins: 2; Packaging: Cut Tape; MSL: MSL 1 - Unlimited; Operating Temperature Min: -65; Operating Temperature Range: -65°C to +150°C<!--FANDB--><div class="features-and-benefits-container"><div class="features-and-benefits-description"><span class="features-benefits-value">The 1N4148WS-7-F is a surface mount fast Switching Diode with matte tin-plated terminals and an UL94V-0 green molding compound molded plastic case. Solderable terminals as per MIL-STD-202, method 208 standard. Color band denotes cathode end polarity. It is suitable for general purpose switching applications.</span></div><div class="features-and-benefits-list"><ul class="features-and-benefits-list-list"><li class="features-and-benefits-list-item">Fast switching speed</li><li class="features-and-benefits-list-item">100V Non-repetitive peak reverse voltage</li><li class="features-and-benefits-list-item">53V RMS reverse voltage</li><li class="features-and-benefits-list-item">200mW Power dissipation</li><li class="features-and-benefits-list-item">625; ComponentLink1URL: http://www.farnell.com/datasheets/1911818.pdf; ComponentLink1Description: http://www.farnell.com/datasheets/1911818.pdf; Supplier Part Number 1: 1843678
footprint SOD-323
pins: 1 K, 2 A

## 1N5819HW-7-F
designator D?, comment SCHOTTKY
Schottky Diodes & Rectifiers Vr/40V Io/1A T/R; Manufacturer: Diodes Incorporated; Manufacturer Part Number: 1N5819HW-7-F; Configuration: Single; If - Forward Current: 1 A; Ifsm - Forward Surge Current: 25 A; Ir - Reverse Current: 1000 uA; Pd - Power Dissipation: 450 mW; Vf - Forward Voltage: 0.75 V at 3 A; Vrrm - Repetitive Reverse Voltage: 40 V; Supplier 1: Mouser; RoHS: RoHS Compliant; Category: Schottky Diodes & Rectifiers; Stock 1: 158001; Pricing 1: 1=0.524, 10=0.296, 100=0.126, 1000=0.098, 3000=0.074, 9000=0.066, 24000=0.062, 45000=0.054, 99000=0.051 (USD); Package/Case: SOD-123; Packaging: Reel; Product: Schottky Rectifiers; Series: 1N5819; Technology: Si; Brand: Diodes Incorporated; Mounting Style: SMD/SMT; Maximum Operating Temperature: + 125 C; Minimum Operating Temperature: - 65 C; Product Category: Rectifier - Schottky; Standard Pack Qty: 3000; RoHS - Mouser: Y; Minimum Order Quantity: 1; Reeling: True; ComponentLink1URL: http://www.mouser.com/ds/2/115/ds30217-71027.pdf; ComponentLink1Description: http://www.mouser.com/ds/2/115/ds30217-71027.pdf; Supplier Part Number 1: 621-1N5819HW-F
pins: 1 CATHODE, 2 ANODE

## 1N5819HW-7-F_1
designator D?, comment SCHOTTKY
Schottky Diodes & Rectifiers Vr/40V Io/1A T/R; Manufacturer: Diodes Incorporated; Manufacturer Part Number: 1N5819HW-7-F; Configuration: Single; If - Forward Current: 1 A; Ifsm - Forward Surge Current: 25 A; Ir - Reverse Current: 1000 uA; Pd - Power Dissipation: 450 mW; Vf - Forward Voltage: 0.75 V at 3 A; Vrrm - Repetitive Reverse Voltage: 40 V; Supplier 1: Mouser; RoHS: RoHS Compliant; Category: Schottky Diodes & Rectifiers; Stock 1: 158001; Pricing 1: 1=0.524, 10=0.296, 100=0.126, 1000=0.098, 3000=0.074, 9000=0.066, 24000=0.062, 45000=0.054, 99000=0.051 (USD); Package/Case: SOD-123; Packaging: Reel; Product: Schottky Rectifiers; Series: 1N5819; Technology: Si; Brand: Diodes Incorporated; Mounting Style: SMD/SMT; Maximum Operating Temperature: + 125 C; Minimum Operating Temperature: - 65 C; Product Category: Rectifier - Schottky; Standard Pack Qty: 3000; RoHS - Mouser: Y; Minimum Order Quantity: 1; Reeling: True; ComponentLink1URL: http://www.mouser.com/ds/2/115/ds30217-71027.pdf; ComponentLink1Description: http://www.mouser.com/ds/2/115/ds30217-71027.pdf; Supplier Part Number 1: 621-1N5819HW-F
pins: 1 CATHODE, 2 ANODE

## 1R,0805
designator R?
BOURNS - CR0805-J/-1R0ELF - RESISTOR THICK FILM, 1 OHM, 5%, 0805; Supplier 1: Farnell; Manufacturer: BOURNS; Manufacturer Part Number: CR0805-J/-1R0ELF; RoHS: YES; Stock 1: 25564; Pricing 1: 1=0,0273, 10=0,0208, 50=0,0169, 100=0,0117, 500=0,0104, 1000=0,0091 (EUR); ComponentLink1URL: http://www.farnell.com/datasheets/691949.pdf; ComponentLink1Description: http://www.farnell.com/datasheets/691949.pdf; Supplier Part Number 1: 2333534
footprint R0805
pins: 1, 2

## 1R,0805_1
designator R?
BOURNS - CR0805-J/-1R0ELF - RESISTOR THICK FILM, 1 OHM, 5%, 0805; Supplier 1: Farnell; Manufacturer: BOURNS; Manufacturer Part Number: CR0805-J/-1R0ELF; RoHS: YES; Stock 1: 25564; Pricing 1: 1=0,0273, 10=0,0208, 50=0,0169, 100=0,0117, 500=0,0104, 1000=0,0091 (EUR); ComponentLink1URL: http://www.farnell.com/datasheets/691949.pdf; ComponentLink1Description: http://www.farnell.com/datasheets/691949.pdf; Supplier Part Number 1: 2333534
footprint R0805
pins: 1, 2

## 1UF,10V,0805
designator C?
AVX - 0805ZC105JAT2A - CAP, MLCC, X7R, 1UF, 10V, 0805; Capacitance: 1; Capacitance Tolerance: ± 5%; Dielectric Characteristic: X7; Voltage Rating: 10; Ceramic Capacitor Case: 0805 [2012 Metric]; SVHC: No SVHC (16-Jun-2014); Capacitor Case Style: 0805 [2012 Metric]<!--FANDB--><div class="features-and-benefits-container"></div>; Supplier 1: Farnell; Manufacturer: AVX; Manufacturer Part Number: 0805ZC105JAT2A; RoHS: YES; Stock 1: 6040; Pricing 1: 10=1,26, 100=1,01, 500=0,793, 1000=0,598, 4000=0,416 (EUR); Product Range: -; Operating Temperature Min: -55; Operating Temperature Max: 125; Packaging: Cut Tape; MSL: MSL 1 - Unlimited; Capacitance Tolerance ±: ± 5%; ComponentLink1URL: http://www.farnell.com/datasheets/1679506.pdf; ComponentLink1Description: http://www.farnell.com/datasheets/1679506.pdf; Supplier Part Number 1: 2332827
footprint C0805
pins: 1, 2

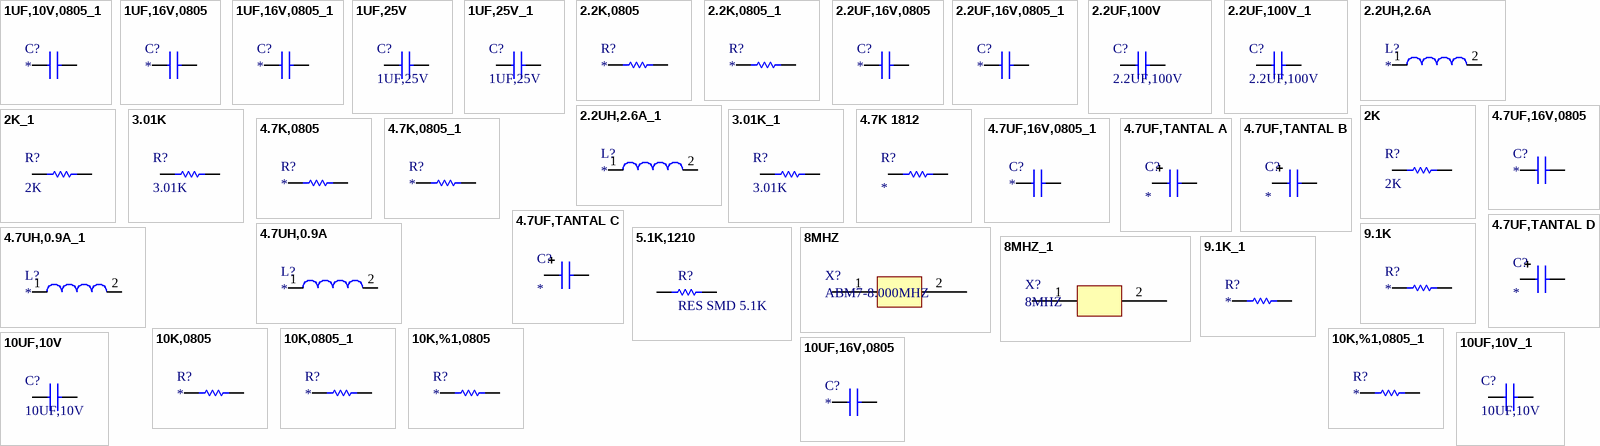
[diagram p1: symbols 1UF,10V,0805_1 to 10UF,16V,0805]

## 1UF,10V,0805_1
designator C?
AVX - 0805ZC105JAT2A - CAP, MLCC, X7R, 1UF, 10V, 0805; Capacitance: 1; Capacitance Tolerance: ± 5%; Dielectric Characteristic: X7; Voltage Rating: 10; Ceramic Capacitor Case: 0805 [2012 Metric]; SVHC: No SVHC (16-Jun-2014); Capacitor Case Style: 0805 [2012 Metric]<!--FANDB--><div class="features-and-benefits-container"></div>; Supplier 1: Farnell; Manufacturer: AVX; Manufacturer Part Number: 0805ZC105JAT2A; RoHS: YES; Stock 1: 6040; Pricing 1: 10=1,26, 100=1,01, 500=0,793, 1000=0,598, 4000=0,416 (EUR); Product Range: -; Operating Temperature Min: -55; Operating Temperature Max: 125; Packaging: Cut Tape; MSL: MSL 1 - Unlimited; Capacitance Tolerance ±: ± 5%; ComponentLink1URL: http://www.farnell.com/datasheets/1679506.pdf; ComponentLink1Description: http://www.farnell.com/datasheets/1679506.pdf; Supplier Part Number 1: 2332827
footprint C0805
pins: 1, 2

## 1UF,16V,0805
designator C?
AVX - 0805YC105KAT2A - CAP, MLCC, X7R, 1UF, 16V, 0805; Supplier 1: Farnell; Manufacturer: AVX; Manufacturer Part Number: 0805YC105KAT2A; RoHS: YES; Stock 1: 8560; Pricing 1: 10=0,164, 100=0,104, 500=0,043, 1000=0,036, 2000=0,029 (EUR); ComponentLink1URL: http://www.farnell.com/datasheets/1679506.pdf; ComponentLink1Description: http://www.farnell.com/datasheets/1679506.pdf; Supplier Part Number 1: 2280689RL
footprint C0805
pins: 1, 2

## 1UF,16V,0805_1
designator C?
AVX - 0805YC105KAT2A - CAP, MLCC, X7R, 1UF, 16V, 0805; Supplier 1: Farnell; Manufacturer: AVX; Manufacturer Part Number: 0805YC105KAT2A; RoHS: YES; Stock 1: 8560; Pricing 1: 10=0,164, 100=0,104, 500=0,043, 1000=0,036, 2000=0,029 (EUR); ComponentLink1URL: http://www.farnell.com/datasheets/1679506.pdf; ComponentLink1Description: http://www.farnell.com/datasheets/1679506.pdf; Supplier Part Number 1: 2280689RL
footprint C0805
pins: 1, 2

## 1UF,25V
designator C?
Multilayer Ceramic Capacitors MLCC - SMD/SMT 0603 1.0uF 25volts X7R 10%; Manufacturer: Murata Electronics; Manufacturer Part Number: GRM188R71E105KA12D; Type: General Purpose MLCC; Case Height: 0.8 mm; Case Length: 1.6 mm; Temperature Coefficient / Code: +/- 15 %; Supplier 1: Mouser; RoHS: RoHS Compliant; Category: Multilayer Ceramic Capacitors MLCC - SMD/SMT; Stock 1: 157319; Pricing 1: 1=0.475, 10=0.221, 100=0.131, 1000=0.116, 4000=0.092, 8000=0.082, 24000=0.079, 48000=0.076, 100000=0.065 (AUD); Capacitance: 1 uF; Operating Temperature Range: - 55 C to + 125 C; Package / Case: 0603 (1608 metric); Packaging: Reel; Product: General Type MLCCs; Series: GRM; Termination Style: SMD/SMT; Tolerance: 10 %; Voltage Rating DC: 25 V; Brand: Murata Electronics; Case Code - in: 0603; Case Code - mm: 1608; Case Width: 0.8 mm; Dielectric: X7R; Maximum Operating Temperature: + 125 C; Minimum Operating Temperature: - 55 C; Product Category: High Capacitance SMD Ceramic Chip Capacitors; Standard Pack Qty: 4000; RoHS - Mouser: Y; Minimum Order Quantity: 1; Reeling: True; ComponentLink1URL: http://www.mouser.com/ds/2/281/c02e-2905.pdf; ComponentLink1Description: http://www.mouser.com/ds/2/281/c02e-2905.pdf; Supplier Part Number 1: 81-GRM188R71E105KA2D
footprint 0603 (0603_CC)
pins: 1, 2

## 1UF,25V_1
designator C?, comment 1UF,25V
Multilayer Ceramic Capacitors MLCC - SMD/SMT 0603 1.0uF 25volts X7R 10%; Manufacturer: Murata Electronics; Manufacturer Part Number: GRM188R71E105KA12D; Type: General Purpose MLCC; Case Height: 0.8 mm; Case Length: 1.6 mm; Temperature Coefficient / Code: +/- 15 %; Supplier 1: Mouser; RoHS: RoHS Compliant; Category: Multilayer Ceramic Capacitors MLCC - SMD/SMT; Stock 1: 157319; Pricing 1: 1=0.475, 10=0.221, 100=0.131, 1000=0.116, 4000=0.092, 8000=0.082, 24000=0.079, 48000=0.076, 100000=0.065 (AUD); Capacitance: 1 uF; Operating Temperature Range: - 55 C to + 125 C; Package / Case: 0603 (1608 metric); Packaging: Reel; Product: General Type MLCCs; Series: GRM; Termination Style: SMD/SMT; Tolerance: 10 %; Voltage Rating DC: 25 V; Brand: Murata Electronics; Case Code - in: 0603; Case Code - mm: 1608; Case Width: 0.8 mm; Dielectric: X7R; Maximum Operating Temperature: + 125 C; Minimum Operating Temperature: - 55 C; Product Category: High Capacitance SMD Ceramic Chip Capacitors; Standard Pack Qty: 4000; RoHS - Mouser: Y; Minimum Order Quantity: 1; Reeling: True; ComponentLink1URL: http://www.mouser.com/ds/2/281/c02e-2905.pdf; ComponentLink1Description: http://www.mouser.com/ds/2/281/c02e-2905.pdf; Supplier Part Number 1: 81-GRM188R71E105KA2D
footprint 0603 (0603_CC)
pins: 1, 2

## 2.2K,0805
designator R?
PANASONIC - ERJP06F2201V - RESISTOR, THICK FILM, 2.2 KOHM, 0.5W, 1%; Product Range: PANASONIC - ERJ Series; Resistance: 2.2; Power Rating: 500; Resistor Case Style: 0805 [2012 Metric]; Temperature Coefficient: ± 100; Voltage Rating: 400; SVHC: No SVHC (16-Dec-2013); External Depth: 1.25; External Length / Height: 0.6; External Width: 2; Overload Voltage: 600; Reel Quantity: 5000; Resistor Mounting: SMD; Supplier 1: Farnell; Manufacturer: PANASONIC; Manufacturer Part Number: ERJP06F2201V; RoHS: YES; Stock 1: 750; Pricing 1: 25=0,127, 100=0,105, 500=0,0858, 1000=0,065, 5000=0,0624 (EUR); Resistance Tolerance: ± 1%; Resistor Element Material: Thick Film; Packaging: Cut Tape; MSL: -; No. of Pins: 2; Operating Temperature Max: 155; Operating Temperature Min: -55; Operating Temperature Range: -55°C to +155; Series: ERJP<!--FANDB--><div class="features-and-benefits-container"></div>; ComponentLink1URL: http://www.farnell.com/datasheets/1801181.pdf; ComponentLink1Description: http://www.farnell.com/datasheets/1801181.pdf; ComponentLink2URL: http://www.farnell.com/datasheets/1718548.pdf; ComponentLink2Description: http://www.farnell.com/datasheets/1718548.pdf; ComponentLink3URL: http://www.farnell.com/cad/1697897.zip; ComponentLink3Description: http://www.farnell.com/cad/1697897.zip; Supplier Part Number 1: 1750759
footprint R0805
pins: 1, 2

## 2.2K,0805_1
designator R?
PANASONIC - ERJP06F2201V - RESISTOR, THICK FILM, 2.2 KOHM, 0.5W, 1%; Product Range: PANASONIC - ERJ Series; Resistance: 2.2; Power Rating: 500; Resistor Case Style: 0805 [2012 Metric]; Temperature Coefficient: ± 100; Voltage Rating: 400; SVHC: No SVHC (16-Dec-2013); External Depth: 1.25; External Length / Height: 0.6; External Width: 2; Overload Voltage: 600; Reel Quantity: 5000; Resistor Mounting: SMD; Supplier 1: Farnell; Manufacturer: PANASONIC; Manufacturer Part Number: ERJP06F2201V; RoHS: YES; Stock 1: 750; Pricing 1: 25=0,127, 100=0,105, 500=0,0858, 1000=0,065, 5000=0,0624 (EUR); Resistance Tolerance: ± 1%; Resistor Element Material: Thick Film; Packaging: Cut Tape; MSL: -; No. of Pins: 2; Operating Temperature Max: 155; Operating Temperature Min: -55; Operating Temperature Range: -55°C to +155; Series: ERJP<!--FANDB--><div class="features-and-benefits-container"></div>; ComponentLink1URL: http://www.farnell.com/datasheets/1801181.pdf; ComponentLink1Description: http://www.farnell.com/datasheets/1801181.pdf; ComponentLink2URL: http://www.farnell.com/datasheets/1718548.pdf; ComponentLink2Description: http://www.farnell.com/datasheets/1718548.pdf; ComponentLink3URL: http://www.farnell.com/cad/1697897.zip; ComponentLink3Description: http://www.farnell.com/cad/1697897.zip; Supplier Part Number 1: 1750759
footprint R0805
pins: 1, 2

## 2.2UF,16V,0805
designator C?
KEMET - C0805C225K4RACTU - CAP, MLCC, X7R, 2.2UF, 16V, 0805; Supplier 1: Farnell; Manufacturer: KEMET; Manufacturer Part Number: C0805C225K4RACTU; RoHS: YES; Stock 1: 45940; Pricing 1: 10=0,112, 100=0,0559, 1000=0,0468, 4000=0,0364 (EUR); ComponentLink1URL: http://www.farnell.com/datasheets/1851736.pdf; ComponentLink1Description: http://www.farnell.com/datasheets/1851736.pdf; ComponentLink2URL: http://www.farnell.com/cad/1558693.zip; ComponentLink2Description: http://www.farnell.com/cad/1558693.zip; Supplier Part Number 1: 1288262
footprint C0805
pins: 1, 2

## 2.2UF,16V,0805_1
designator C?
KEMET - C0805C225K4RACTU - CAP, MLCC, X7R, 2.2UF, 16V, 0805; Supplier 1: Farnell; Manufacturer: KEMET; Manufacturer Part Number: C0805C225K4RACTU; RoHS: YES; Stock 1: 45940; Pricing 1: 10=0,112, 100=0,0559, 1000=0,0468, 4000=0,0364 (EUR); ComponentLink1URL: http://www.farnell.com/datasheets/1851736.pdf; ComponentLink1Description: http://www.farnell.com/datasheets/1851736.pdf; ComponentLink2URL: http://www.farnell.com/cad/1558693.zip; ComponentLink2Description: http://www.farnell.com/cad/1558693.zip; Supplier Part Number 1: 1288262
footprint C0805
pins: 1, 2

## 2.2UF,100V
designator C?
Multilayer Ceramic Capacitors MLCC - SMD/SMT 1210 2.2uF 100volts X7R 10%; Manufacturer: Murata Electronics; Manufacturer Part Number: GRM32ER72A225KA35L; Type: General Purpose MLCC; Case Height: 2.5 mm; Case Length: 3.2 mm; Temperature Coefficient / Code: +/- 15 %; Supplier 1: Mouser; RoHS: RoHS Compliant; Category: Multilayer Ceramic Capacitors MLCC - SMD/SMT; Stock 1: 163712; Pricing 1: 1=1.98, 10=1.42, 100=0.946, 500=0.848, 1000=0.748, 2000=0.512, 10000=0.503, 25000=0.493 (AUD); Capacitance: 2.2 uF; Operating Temperature Range: - 55 C to + 125 C; Package / Case: 1210 (3225 metric); Packaging: Reel; Product: General Type MLCCs; Series: GRM; Termination Style: SMD/SMT; Tolerance: 10 %; Voltage Rating DC: 100 V; Brand: Murata Electronics; Case Code - in: 1210; Case Code - mm: 3225; Case Width: 2.5 mm; Dielectric: X7R; Maximum Operating Temperature: + 125 C; Minimum Operating Temperature: - 55 C; Product Category: High Capacitance SMD Ceramic Chip Capacitors; Standard Pack Qty: 1000; RoHS - Mouser: Y; Minimum Order Quantity: 1; Reeling: True; ComponentLink1URL: http://www.mouser.com/ds/2/281/c02e-2905.pdf; ComponentLink1Description: http://www.mouser.com/ds/2/281/c02e-2905.pdf; Supplier Part Number 1: 81-GRM32ER72A225KA35
footprint 1206
pins: 1, 2

## 2.2UF,100V_1
designator C?, comment 2.2UF,100V
Multilayer Ceramic Capacitors MLCC - SMD/SMT 1210 2.2uF 100volts X7R 10%; Manufacturer: Murata Electronics; Manufacturer Part Number: GRM32ER72A225KA35L; Type: General Purpose MLCC; Case Height: 2.5 mm; Case Length: 3.2 mm; Temperature Coefficient / Code: +/- 15 %; Supplier 1: Mouser; RoHS: RoHS Compliant; Category: Multilayer Ceramic Capacitors MLCC - SMD/SMT; Stock 1: 163712; Pricing 1: 1=1.98, 10=1.42, 100=0.946, 500=0.848, 1000=0.748, 2000=0.512, 10000=0.503, 25000=0.493 (AUD); Capacitance: 2.2 uF; Operating Temperature Range: - 55 C to + 125 C; Package / Case: 1210 (3225 metric); Packaging: Reel; Product: General Type MLCCs; Series: GRM; Termination Style: SMD/SMT; Tolerance: 10 %; Voltage Rating DC: 100 V; Brand: Murata Electronics; Case Code - in: 1210; Case Code - mm: 3225; Case Width: 2.5 mm; Dielectric: X7R; Maximum Operating Temperature: + 125 C; Minimum Operating Temperature: - 55 C; Product Category: High Capacitance SMD Ceramic Chip Capacitors; Standard Pack Qty: 1000; RoHS - Mouser: Y; Minimum Order Quantity: 1; Reeling: True; ComponentLink1URL: http://www.mouser.com/ds/2/281/c02e-2905.pdf; ComponentLink1Description: http://www.mouser.com/ds/2/281/c02e-2905.pdf; Supplier Part Number 1: 81-GRM32ER72A225KA35
footprint 1206
pins: 1, 2

## 2.2UH,2.6A
designator L?
INDUCTOR POWER 2.2UH 2.6A SMD; Manufacturer: TDK Corporation; Manufacturer Part Number: VLCF5020T-2R2N2R6-3; Type: Wirewound; Material - Core: Ferrite; Inductance: 2.2µH; Tolerance: ±30%; Current Rating: 2.62A; Shielding: Shielded; DC Resistance (DCR): 43 mOhm Max; Frequency - Test: 100kHz; Capacitance: 25pF; Voltage - Rated: 50V; Temperature Coefficient: C0G, NP0; Supplier 1: Digi-Key; RoHS: RoHS Compliant; Category: Inductors, Coils, Chokes; Stock 1: 28500; Pricing 1: 500=0.462, 1000=0.374, 2500=0.352, 5000=0.341, 12500=0.33, 25000=0.319, 50000=0.308 (USD); Packaging: Tape & Reel (TR); Current - Saturation: 2.62A; Q @ Freq: -; Frequency - Self Resonant: -; Operating Temperature: -40°C ~ 105°C; Mounting Type: Surface Mount; Package / Case: Non Standard; Size / Dimension: 0.197" L x 0.197" W (5.00mm x 5.00mm); Height - Seated (Max): 0.079" (2.00mm); Supplier Device Package: -; ComponentLink1URL: http://product.tdk.com/inductor/ind/en/documents/inductor_commercial_power_vlcf_en.pdf; ComponentLink1Description: http://product.tdk.com/inductor/ind/en/documents/inductor_commercial_power_vlcf_en.pdf; Supplier Part Number 1: 445-4557-2-ND; Supplier 2: Digi-Key; Stock 2: 7744; Pricing 2: 1=0.25, 10=0.173, 25=0.126, 50=0.105, 100=0.0882, 250=0.0714, 500=0.063, 1000=0.05355 (USD); Applications: General Purpose; Ratings: -; Thickness (Max): 0.030" (0.75mm); Lead Spacing: -; Features: -; Lead Style: -; ComponentLink2URL: http://www.samsungsem.com/servlet/FileDownload?type=spec&file=CL21C250JBANNNC.pdf; ComponentLink2Description: http://www.samsungsem.com/servlet/FileDownload?type=spec&file=CL21C250JBANNNC.pdf
footprint INDUCTR
pins: 1, 2

## 2.2UH,2.6A_1
designator L?
INDUCTOR POWER 2.2UH 2.6A SMD; Manufacturer: TDK Corporation; Manufacturer Part Number: VLCF5020T-2R2N2R6-3; Type: Wirewound; Material - Core: Ferrite; Inductance: 2.2µH; Tolerance: ±30%; Current Rating: 2.62A; Shielding: Shielded; DC Resistance (DCR): 43 mOhm Max; Frequency - Test: 100kHz; Capacitance: 25pF; Voltage - Rated: 50V; Temperature Coefficient: C0G, NP0; Supplier 1: Digi-Key; RoHS: RoHS Compliant; Category: Inductors, Coils, Chokes; Stock 1: 28500; Pricing 1: 500=0.462, 1000=0.374, 2500=0.352, 5000=0.341, 12500=0.33, 25000=0.319, 50000=0.308 (USD); Packaging: Tape & Reel (TR); Current - Saturation: 2.62A; Q @ Freq: -; Frequency - Self Resonant: -; Operating Temperature: -40°C ~ 105°C; Mounting Type: Surface Mount; Package / Case: Non Standard; Size / Dimension: 0.197" L x 0.197" W (5.00mm x 5.00mm); Height - Seated (Max): 0.079" (2.00mm); Supplier Device Package: -; ComponentLink1URL: http://product.tdk.com/inductor/ind/en/documents/inductor_commercial_power_vlcf_en.pdf; ComponentLink1Description: http://product.tdk.com/inductor/ind/en/documents/inductor_commercial_power_vlcf_en.pdf; Supplier Part Number 1: 445-4557-2-ND; Supplier 2: Digi-Key; Stock 2: 7744; Pricing 2: 1=0.25, 10=0.173, 25=0.126, 50=0.105, 100=0.0882, 250=0.0714, 500=0.063, 1000=0.05355 (USD); Applications: General Purpose; Ratings: -; Thickness (Max): 0.030" (0.75mm); Lead Spacing: -; Features: -; Lead Style: -; ComponentLink2URL: http://www.samsungsem.com/servlet/FileDownload?type=spec&file=CL21C250JBANNNC.pdf; ComponentLink2Description: http://www.samsungsem.com/servlet/FileDownload?type=spec&file=CL21C250JBANNNC.pdf
footprint INDUCTR
pins: 1, 2

## 2K
designator R?
Thick Film Resistors - SMD 1/10watt 2.0Kohms 1%; Manufacturer: Vishay / Dale; Manufacturer Part Number: CRCW06032K00FKEA; Power Rating: 100 mW; Resistance: 2 kOhms; Temperature Coefficient: 100 PPM / K; Voltage Rating: 75 V; Case Height: 0.45 mm; Case Length: 1.55 mm; Case Width: 0.85 mm; Supplier 1: Mouser; RoHS: RoHS Compliant By Exemption; Category: Thick Film Resistors - SMD; Stock 1: 484813; Pricing 1: 1=0.119, 10=0.019, 100=0.015, 1000=0.012, 5000=0.007, 25000=0.006, 50000=0.004 (AUD); Operating Temperature Range: - 55 C to + 155 C; Package / Case: 0603 (1608 metric); Packaging: Reel; Product: Thick Film Resistors SMD; Series: CRCW; Tolerance: 1 %; Brand: Vishay / Dale; Case Code - in: 0603; Case Code - mm: 1608; Product Category: 0603 Thick Film Chip Resistors; Standard Pack Qty: 5000; RoHS - Mouser: E; Minimum Order Quantity: 1; Reeling: True; ComponentLink1URL: http://www.vishay.com/doc?20035; ComponentLink1Description: http://www.vishay.com/doc?20035; Supplier Part Number 1: 71-CRCW0603-2.0K-E3
footprint 0603 (0603_CC)
pins: 1, 2